# Altium schematic symbol library TCM1-63AX-2+.SchLib: 1 symbol
Pins are listed as number, name and electrical type; pins without a type are passive.

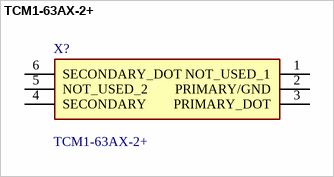
[diagram p0: symbol TCM1-63AX-2+]

## TCM1-63AX-2+
designator X?
Audio Transformers / Signal Transformers TC XFMR / SURF MOUNT /    RoHS; Manufacturer_Name: Mini-Circuits; Geometry.Height: 4.06mm; Mouser Part Number: 139-TCM1-63AX-2; Mouser Price/Stock: https://www.mouser.co.uk/ProductDetail/Mini-Circuits/TCM1-63AX-2%2b?qs=xZ%2FP%252Ba9zWqbCeM5gU814pw%3D%3D; Manufacturer_Part_Number: TCM1-63AX-2+; Datasheet Link: https://www.minicircuits.com/WebStore/dashboardPdf?model=TCM1-63AX-2%2B
footprint TCM163AX2
pins: 1 NOT_USED_1, 2 PRIMARY/GND, 3 PRIMARY_DOT, 4 SECONDARY, 5 NOT_USED_2, 6 SECONDARY_DOT